# Altium footprint library CONN_PWR.PcbLib: 30 footprints (part 2 of 2)
Each footprint in its own frame and in the unit in brackets; x right, y up, seen from the top. Pads: shape width x height; smd on the part's side, far side on the other; paste and mask are expansions set on the pad; w line width, h text height; cw(c..) or ccw(c..) is an arc to the next point about the centre after c.
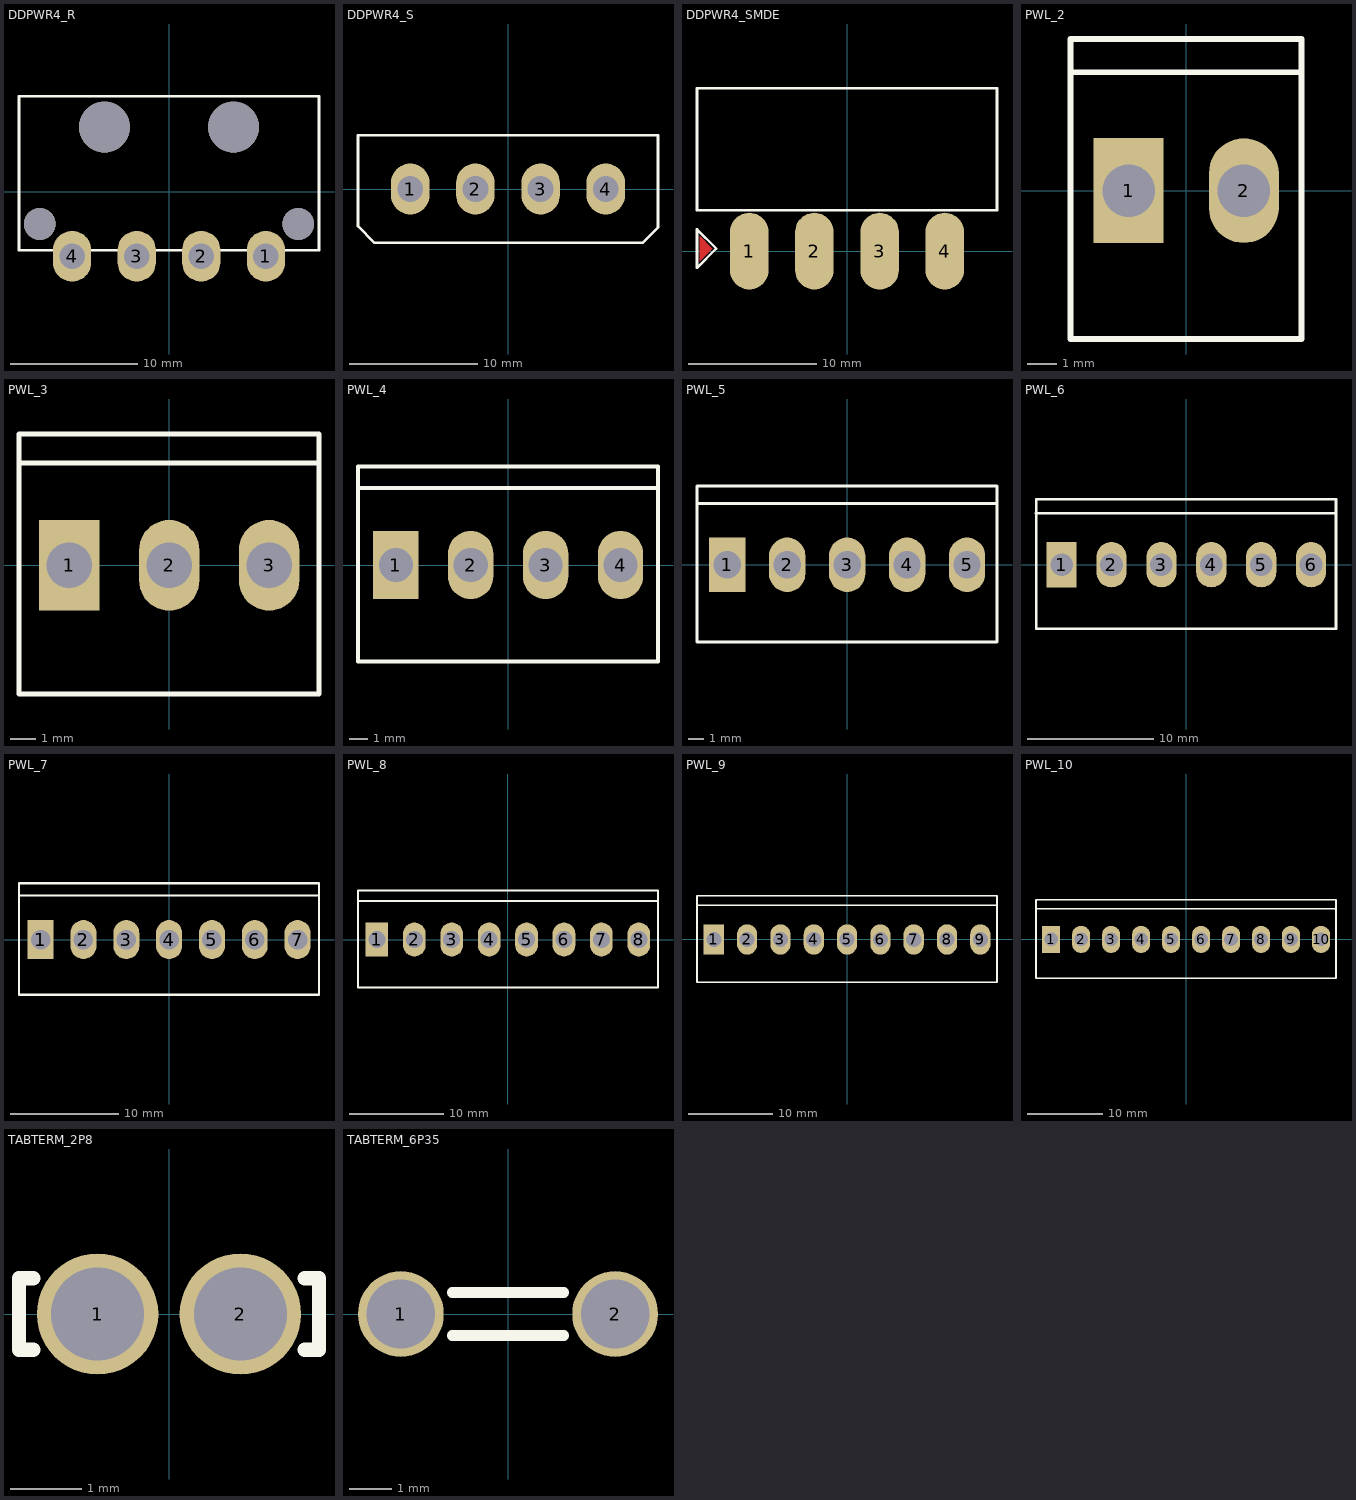
[diagram p1: the footprints below, top view; thin cyan lines are the x and y axes]

## DDPWR4_R [mm] "DP04PR IDE DISK DRIVE 4pin power connector Right Angle Power Plug"
height 8.45
pads (8):
  oval 3x4 hole 2: 1(7.62,-5.08) 2(2.54,-5.08) 3(-2.54,-5.08) 4(-7.62,-5.08)
  round 2.5 hole 2.5 unplated: ""(-10.16,-2.54) ""(10.16,-2.54)
  round 4 hole 4 unplated: ""(-5.08,5.08) ""(5.08,5.08)
Top Overlay:
  lines w0.2: -9,-4.6 -11.8,-4.6 -11.8,7.5 11.8,7.5 11.8,-4.6 9,-4.6 ; -6.2,-4.6 -3.92,-4.6 ; -1.2,-4.6 1.16,-4.6 ; 3.9,-4.6 6.24,-4.6
3D body "Header 5.08mm disk drive power SRA.stp": height 8.44, standoff -3.88, extent -11.633,-5.742 11.633,7.949

## DDPWR4_S [mm] "DP04PR IDE DISK DRIVE 4pin power connector Straight Power Plug"
height 8.45
pads (4):
  oval 3x4 hole 2: 1(-7.62,0) 2(-2.54,0) 3(2.54,0) 4(7.62,0)
Top Overlay:
  lines w0.2: -11.7,-2.9 -11.7,4.2 11.7,4.2 11.7,-3 10.5,-4.2 -10.4,-4.2 -11.7,-2.9
3D body "Header 5.08mm disk drive power ST.stp": height 10.16, standoff -3.6, extent -11.63,-4.14 11.63,4.14

## DDPWR4_SMDE [mm] "DP04PR IDE DISK DRIVE 4pin power connector Straight Power Plug"
height 8.45
pads (4):
  oval 3x6 smd: 1(-7.62,0) 2(-2.54,0) 3(2.54,0) 4(7.62,0)
Top Layer:
  region: -11.5,-0.8 -10.5,0.2 -11.5,1.2
Top Overlay:
  lines w0.2: -11.7,-1.3 -11.7,1.7 -10.2,0.2 -11.7,-1.3 ; -11.7,3.2 11.7,3.2 11.7,12.7 -11.7,12.7 -11.7,3.2
3D body "Header 5.08mm disk drive power ST.stp": height 5.04, standoff -3.24, extent -11.63,-1.2 11.63,12.56

## PWL_2 [mm] "Connector; Header; 2 Position"
height 0.001
pads (2):
  rect 2.4x3.6 hole 1.8: 1(-1.98,0)
  oval 2.4x3.6 hole 1.8: 2(1.98,0)
Top Overlay:
  lines w0.2: -3.98,4.064 3.96,4.064 ; -3.98,-5.1 -3.98,5.207 3.96,5.207 3.96,-5.1 -3.98,-5.1
3D body "PWL-2.stp": height 13.5, standoff -4, extent -3.96,-5 3.96,5

## PWL_3 [mm] "Connector; Header; 3 Position"
height 0.001
pads (3):
  rect 2.4x3.6 hole 1.8: 1(-3.96,0)
  oval 2.4x3.6 hole 1.8: 2(0,0) 3(3.96,0)
Top Overlay:
  lines w0.2: -5.96,4.064 5.94,4.064 ; -5.96,-5.1 5.94,-5.1 5.94,5.207 -5.96,5.207 -5.96,-5.1
3D body "PWL-3.stp": height 13.5, standoff -4, extent -5.94,-5 5.94,5

## PWL_4 [mm] "Connector; Header; 4 Position"
height 0.001
pads (4):
  rect 2.4x3.6 hole 1.8: 1(-5.94,0)
  oval 2.4x3.6 hole 1.8: 2(-1.98,0) 3(1.98,0) 4(5.94,0)
Top Overlay:
  lines w0.2: -7.94,4.064 7.92,4.064 ; -7.94,-5.1 -7.94,5.207 7.92,5.207 7.92,-5.1 -7.94,-5.1
3D body "PWL-4.stp": height 13.5, standoff -4, extent -7.92,-5 7.92,5

## PWL_5 [mm] "Connector; Header; 5 Position"
height 0.001
pads (5):
  rect 2.4x3.6 hole 1.8: 1(-7.92,0)
  oval 2.4x3.6 hole 1.8: 2(-3.96,0) 3(0,0) 4(3.96,0) 5(7.92,0)
Top Overlay:
  lines w0.2: -9.92,4.064 9.9,4.064 ; -9.92,-5.1 -9.92,5.207 9.9,5.207 9.9,-5.1 -9.92,-5.1
3D body "PWL-5.stp": height 13.5, standoff -4, extent -9.9,-5 9.9,5

## PWL_6 [mm] "Connector; Header; 6 Position"
height 0.001
pads (6):
  rect 2.4x3.6 hole 1.8: 1(-9.9,0)
  oval 2.4x3.6 hole 1.8: 2(-5.94,0) 3(-1.98,0) 4(1.98,0) 5(5.94,0) 6(9.9,0)
Top Overlay:
  lines w0.2: -11.932,4.064 11.88,4.064 ; -11.9,-5.1 -11.9,5.207 11.88,5.207 11.88,-5.1 -11.9,-5.1
3D body "PWL-6.stp": height 13.5, standoff -4, extent -11.88,-5 11.88,5

## PWL_7 [mm] "Connector; Header; 7 Position"
height 0.001
pads (7):
  rect 2.4x3.6 hole 1.8: 1(-11.88,0)
  oval 2.4x3.6 hole 1.8: 2(-7.92,0) 3(-3.96,0) 4(0,0) 5(3.96,0) 6(7.92,0) 7(11.88,0)
Top Overlay:
  lines w0.2: -13.88,4.064 13.86,4.064 ; -13.88,-5.1 -13.88,5.207 13.86,5.207 13.86,-5.1 -13.88,-5.1
3D body "PWL-7.stp": height 13.5, standoff -4, extent -13.86,-5 13.86,5

## PWL_8 [mm] "Connector; Header; 8 Position"
height 0.001
pads (8):
  rect 2.4x3.6 hole 1.8: 1(-13.86,0)
  oval 2.4x3.6 hole 1.8: 2(-9.9,0) 3(-5.94,0) 4(-1.98,0) 5(1.98,0) 6(5.94,0) 7(9.9,0) 8(13.86,0)
Top Overlay:
  lines w0.2: -15.86,4.064 15.89,4.064 ; -15.86,-5.1 -15.86,5.207 15.89,5.207 15.89,-5.1 -15.86,-5.1
3D body "PWL-8.stp": height 13.5, standoff -4, extent -15.822,-4.92 15.858,5.08

## PWL_9 [mm] "Connector; Header; 9 Position"
height 0.001
pads (9):
  rect 2.4x3.6 hole 1.8: 1(-15.84,0)
  oval 2.4x3.6 hole 1.8: 2(-11.88,0) 3(-7.92,0) 4(-3.96,0) 5(0,0) 6(3.96,0) 7(7.92,0) 8(11.88,0) 9(15.84,0)
Top Overlay:
  lines w0.2: -17.84,4.064 17.82,4.064 ; -17.84,-5.1 -17.84,5.207 17.82,5.207 17.82,-5.1 -17.84,-5.1
3D body "PWL-9.stp": height 13.5, standoff -4, extent -17.82,-5 17.82,5

## PWL_10 [mm] "Connector; Header; 10 Position"
height 0.001
pads (10):
  rect 2.4x3.6 hole 1.8: 1(-17.82,0)
  oval 2.4x3.6 hole 1.8: 2(-13.86,0) 3(-9.9,0) 4(-5.94,0) 5(-1.98,0) 6(1.98,0) 7(5.94,0) 8(9.9,0) 9(13.86,0) 10(17.82,0)
Top Overlay:
  lines w0.2: -19.82,4.064 19.8,4.064 ; -19.82,-5.1 19.8,-5.1 19.8,5.207 -19.82,5.207 -19.82,-5.1
3D body "PWL-10.stp": height 13.5, standoff -4, extent -19.8,-5 19.8,5

## TABTERM_2P8 [mm] "Tab terminal FASTON 110, 2.8 mm width, 0.8 mm thickness"
height 10
pads (2):
  round 1.7 / inner round 1.7 / far side oval 1.7x2.5 hole 1.3: 1(-1,0) 2(1,0)
Top Overlay:
  lines w0.2: -1.9,-0.5 -2.1,-0.5 -2.1,0.5 -1.9,0.5 ; 1.9,-0.5 2.1,-0.5 2.1,0.5 1.9,0.5
3D body "TAB110.step": height 8.2, standoff -4, extent -2.01,-0.4 1.99,0.4

## TABTERM_6P35 [mm] "Tab terminal FASTON 250, 6.35 mm width, 0.8 mm thickness"
height 10
pads (2):
  round 2 / inner round 2 / far side oval 3.2x2.4 hole 1.6: 1(-2.5,0) 2(2.5,0)
Top Overlay:
  lines w0.254: -1.3,-0.5 1.3,-0.5 ; -1.3,0.5 1.3,0.5
3D body "726386-2.stp": height 10.16, standoff -3.84, extent -3.96,-0.4 4.04,0.4